# Altium schematic symbol library Optos.SCHLIB: 15 symbols
Pins are listed as number, name and electrical type; pins without a type are passive.

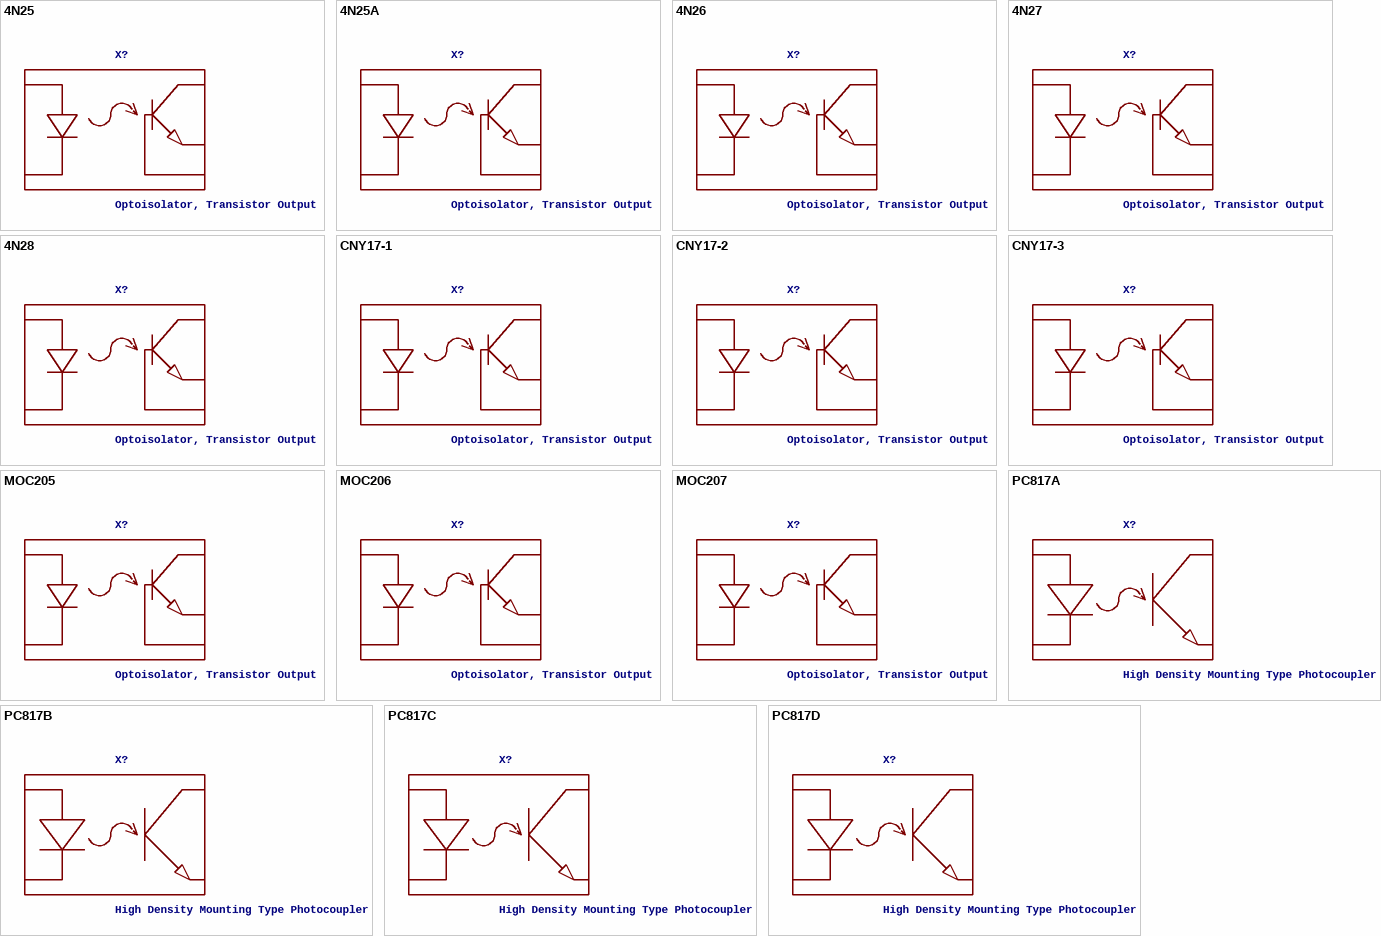
[diagram p0: symbols 4N25 to PC817D]

## 4N25
designator X?, comment Optoisolator, Transistor Output
VALUE2: 4N25; SPICEMODEL: 4N25.sub
pins: ?1 A, ?2 K, ?3 C, ?4 E, ?5 B

## 4N25A
designator X?, comment Optoisolator, Transistor Output
VALUE2: 4N25; SPICEMODEL: 4N25.sub
pins: ?1 A, ?2 K, ?3 C, ?4 E, ?5 B

## 4N26
designator X?, comment Optoisolator, Transistor Output
VALUE2: 4N25; SPICEMODEL: 4N25.sub
pins: ?1 A, ?2 K, ?3 C, ?4 E, ?5 B

## 4N27
designator X?, comment Optoisolator, Transistor Output
VALUE2: 4N27; SPICEMODEL: 4N27.sub
pins: ?1 A, ?2 K, ?3 C, ?4 E, ?5 B

## 4N28
designator X?, comment Optoisolator, Transistor Output
VALUE2: 4N27; SPICEMODEL: 4N27.sub
pins: ?1 A, ?2 K, ?3 C, ?4 E, ?5 B

## CNY17-1
designator X?, comment Optoisolator, Transistor Output
VALUE2: CNY17 Igain=.724m; SPICEMODEL: CNY17.sub
pins: ?1 A, ?2 K, ?3 C, ?4 E, ?5 B

## CNY17-2
designator X?, comment Optoisolator, Transistor Output
VALUE2: CNY17 Igain=1.39m; SPICEMODEL: CNY17.sub
pins: ?1 A, ?2 K, ?3 C, ?4 E, ?5 B

## CNY17-3
designator X?, comment Optoisolator, Transistor Output
VALUE2: CNY17 Igain=2.44m; SPICEMODEL: CNY17.sub
pins: ?1 A, ?2 K, ?3 C, ?4 E, ?5 B

## MOC205
designator X?, comment Optoisolator, Transistor Output
VALUE2: MOC205 Igain=.724m; SPICEMODEL: MOC205.sub
pins: ?1 A, ?2 K, ?3 C, ?4 E, ?5 B

## MOC206
designator X?, comment Optoisolator, Transistor Output
VALUE2: MOC205 Igain=1.28m; SPICEMODEL: MOC205.sub
pins: ?1 A, ?2 K, ?3 C, ?4 E, ?5 B

## MOC207
designator X?, comment Optoisolator, Transistor Output
VALUE2: MOC205 Igain=2.44m; SPICEMODEL: MOC205.sub
pins: ?1 A, ?2 K, ?3 C, ?4 E, ?5 B

## PC817A
designator X?, comment High Density Mounting Type Photocoupler
VALUE2: PC817 Igain=1m; SPICEMODEL: PC817.sub
pins: ?1 A, ?2 K, ?3 C, ?4 E

## PC817B
designator X?, comment High Density Mounting Type Photocoupler
VALUE2: PC817 Igain=1.5m; SPICEMODEL: PC817.sub
pins: ?1 A, ?2 K, ?3 C, ?4 E

## PC817C
designator X?, comment High Density Mounting Type Photocoupler
VALUE2: PC817 Igain=2.3m; SPICEMODEL: PC817.sub
pins: ?1 A, ?2 K, ?3 C, ?4 E

## PC817D
designator X?, comment High Density Mounting Type Photocoupler
VALUE2: PC817 Igain=3.4m; SPICEMODEL: PC817.sub
pins: ?1 A, ?2 K, ?3 C, ?4 E